# EAGLE library part TPS450 (library TPS5450)
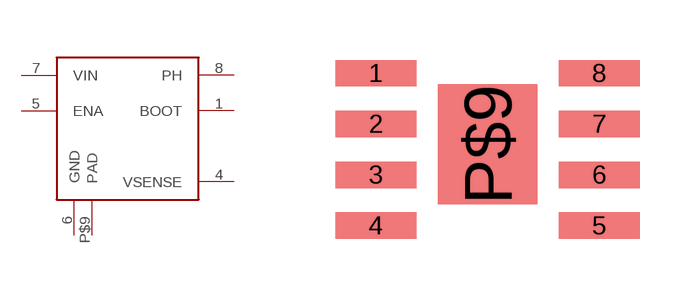
[diagram p0: symbol with the pads of POWER_PAD; footprint POWER_PAD]

Designator prefix -

## TPS450  [POWER_PAD]
1  BOOT
4  VSENSE
5  ENA
6  GND
7  VIN
8  PH
P$9  PAD

## Footprint POWER_PAD (pad centres in mm)
smd 2.032 x 0.66: 1 -4.572,5.842; 2 -4.572,4.572; 3 -4.572,3.302; 4 -4.572,2.032; 5 1.016,2.032; 6 1.016,3.302; 7 1.016,4.572; 8 1.016,5.842
smd 2.489 x 2.997: P$9 -1.778,4.064